# EAGLE library part MS5534C (library SHC)
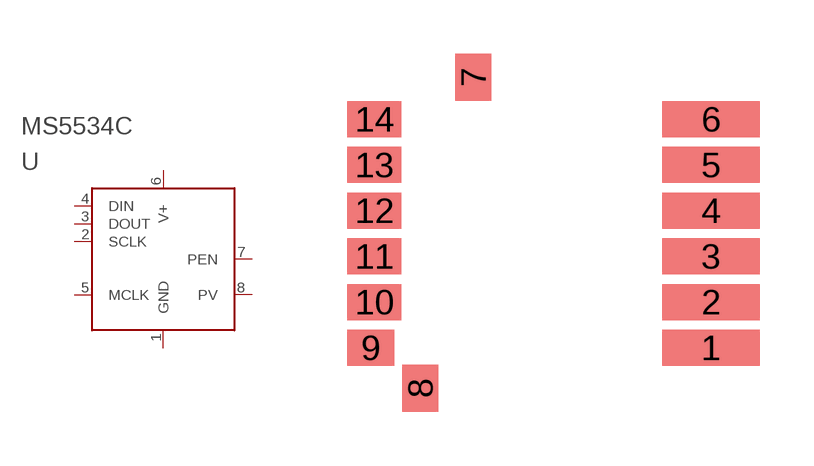
[diagram p0: symbol with the pads of MS5534C; footprint MS5534C]

Designator prefix -

## MS5534C  [MS5534C]
1  GND
2  SCLK
3  DOUT
4  DIN
5  MCLK
6  V+
7  PEN
8  PV

## Footprint MS5534C (pad centres in mm)
smd 2.7 x 1: 1 4.675,-3.175; 2 4.675,-1.905; 3 4.675,-0.635; 4 4.675,0.635; 5 4.675,1.905; 6 4.675,3.175
smd 1 x 1.3: 7 -1.925,4.338; 8 -3.4,-4.3
smd 1.3 x 1: 9 -4.775,-3.175
smd 1.5 x 1: 10 -4.675,-1.905; 11 -4.675,-0.635; 12 -4.675,0.635; 13 -4.675,1.905; 14 -4.675,3.175